# Altium footprint library 4P_HEADER-STD_TH.PcbLib: 1 footprints
Each footprint in its own frame and in the unit in brackets; x right, y up, seen from the top. Pads: shape width x height; smd on the part's side, far side on the other; paste and mask are expansions set on the pad; w line width, h text height; cw(c..) or ccw(c..) is an arc to the next point about the centre after c.
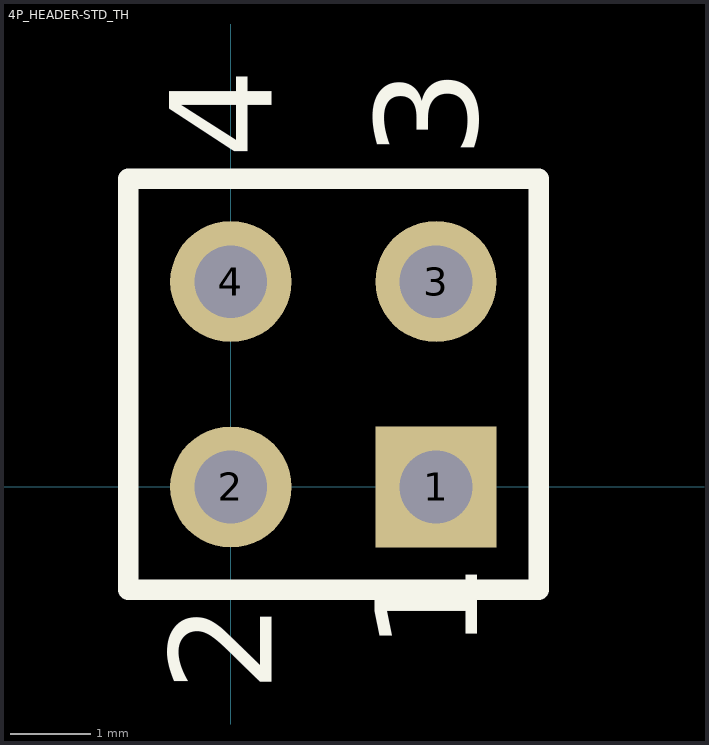
[diagram p0: the footprint, top view; thin cyan lines are the x and y axes]

## 4P_HEADER-STD_TH [mm] "4 pin SMT header, 2.54mm pitch"
pads (4):
  rect 1.5x1.5 hole 0.9: 1(2.54,0)
  round 1.5 hole 0.9: 2(0,0) 3(2.54,2.54) 4(0,2.54)
Top Overlay:
  lines w0.254: -1.27,-1.27 3.81,-1.27 3.81,3.81 -1.27,3.81 -1.27,-1.27
  text "3" at 3.048,4.064 h1.27
  text "4" at 0.508,4.064 h1.27
  text "2" at 0.508,-2.54 h1.27
  text "1" at 3.048,-2.032 h1.27